# Altium schematic symbol library RPSLib_LEDs.SchLib: 15 symbols
Pins are listed as number, name and electrical type; pins without a type are passive.

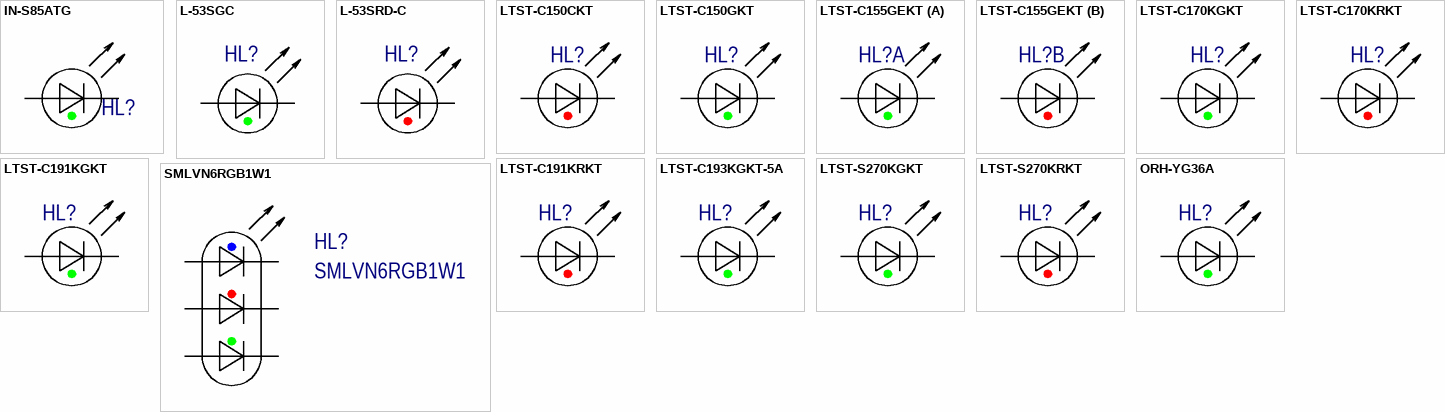
[diagram p0: symbols IN-S85ATG to SMLVN6RGB1W1]

## IN-S85ATG
designator HL?  (value not drawn)
Led Green Clear 0805 SMD; Manufacturer: Inolux; Lens Style: Flat; Luminous Intensity: 600mcd; Forward Voltage: 3.2V; Test Current: 20mA; Viewing Angle: 120°; Dominant Wavelength: 520nm; Lens Size: 1.25mm; Supplier 1: Digi-Key; Manufacturer Part Number: IN-S85ATG; RoHS: No; Category: LEDs; Stock 1: 112506; Pricing 1: 1=0,36000, 10=0,28500, 100=0,12820, 500=0,11576, 1000=0,09508 (USD); Mount: Surface Mount; Case/Package: 0805; Color: Green; Lens Color: Clear; Case Code (Imperial): 0805; Case Code (Metric): 2012; Packaging: Cut Tape; Lens Transparency: Clear; Length: 2mm; Width: 1.25mm; Height: 1.1mm; ComponentLink1URL: http://www.inolux-corp.com/datasheet/SMDLED/Mono%20Color%20Top%20View/IN-S85AT%20Series_V1.1.pdf?src-supplier=Digi-Key; ComponentLink1Description: http://www.inolux-corp.com/datasheet/SMDLED/Mono%20Color%20Top%20View/IN-S85AT%20Series_V1.1.pdf?src-supplier=Digi-Key; ComponentLink2URL: http://www.inolux-corp.com/datasheet/SMDLED/Mono%20Color%20Top%20View/IN-S85AT%20Series_V1.0.pdf?src-supplier=Digi-Key; ComponentLink2Description: http://www.inolux-corp.com/datasheet/SMDLED/Mono%20Color%20Top%20View/IN-S85AT%20Series_V1.0.pdf?src-supplier=Digi-Key; Supplier Part Number 1: 1830-1079-1-ND
footprint DIOC2012X11N-LED-Inolux-GREEN (Chip Diode, 2-Leads, Body 2,00x1,25mm, IPC Medium Density)
pins: 1 A, 2 C

## L-53SGC
designator HL?  (value not drawn)
LED Uni-Color Green 568nm 2-Pin T-1 3/4; Manufacturer: Kingbright; Viewing Angle: 60°; Number of LEDs: 1; Lens Style: Circular,Diffused; Manufacturer Part Number: L-53SGC; RoHS: Yes; Category: LEDs; Mount: Through Hole; Number of Pins: 2; Color: Green; Lens Color: Green; Wavelength: 568nm; Radiation Hardening: No; ComponentLink1URL: https://datasheet.ciiva.com/29334/180189-da-01-en-led-5mm-superbright-typ-l-53srd-e-29334516.pdf?src-supplier=Conrad; ComponentLink1Description: https://datasheet.ciiva.com/29334/180189-da-01-en-led-5mm-superbright-typ-l-53srd-e-29334516.pdf?src-supplier=Conrad
footprint T-1 3/4-Green (Throw hole LED, dia 5mm)
pins: 1 A, 2 C

## L-53SRD-C
designator HL?  (value not drawn)
LED Uni-Color Red 660nm 2-Pin T-1 3/4; Manufacturer: Kingbright; Viewing Angle: 60°; Number of LEDs: 1; Lens Style: Circular,Diffused; Manufacturer Part Number: L-53SRD-C; RoHS: Yes; Category: LEDs; Mount: Through Hole; Number of Pins: 2; Color: Red; Lens Color: Red; Wavelength: 660nm; Radiation Hardening: No; ComponentLink1URL: https://datasheet.ciiva.com/29334/180189-da-01-en-led-5mm-superbright-typ-l-53srd-e-29334516.pdf?src-supplier=Conrad; ComponentLink1Description: https://datasheet.ciiva.com/29334/180189-da-01-en-led-5mm-superbright-typ-l-53srd-e-29334516.pdf?src-supplier=Conrad
footprint T-1 3/4-Red (Throw hole LED, dia 5mm)
pins: 1 A, 2 C

## LTST-C150CKT
designator HL?  (value not drawn)
LED Uni-Color Red 660nm 2-Pin Chip LED T/R; Manufacturer: Vishay Lite-On; Lens Color: Colorless; Number of LEDs: 1; Lens Style: Diffused,Colorless,Clear,Rectangular; Viewing Angle: 130°; Dominant Wavelength: 638nm; Power Dissipation: 100mW; Reverse Voltage: 5V; Forward Current: 40mA; Forward Voltage: 1.8V; Luminous Intensity: 25mcd; Test Current: 10mA; Lens Transparency: Clear; Supplier 1: Digi-Key; Manufacturer Part Number: LTST-C150CKT; RoHS: Yes; Category: LEDs; Stock 1: 225741; Pricing 1: 1=0,33000, 10=0,18100, 100=0,08390, 500=0,07740, 1000=0,06063 (USD); Mount: Surface Mount; Case/Package: 1206; Number of Pins: 2; Color: Red; Case Code (Imperial): 1206; Case Code (Metric): 3216; Min Operating Temperature: -55°C; Max Operating Temperature: 85°C; Number of Elements: 1; Wavelength: 660nm; Packaging: Tape and Reel; Package Quantity: 1; Illumination Color: Red; Power Rating: 100mW; Max Power Dissipation: 100mW; Length: 3.2mm; Width: 1.6mm; Height: 1.1mm; Depth: 1.6mm; Radiation Hardening: No; Lead Free: Lead Free; ComponentLink1URL: https://datasheet.ciiva.com/2110/ltst-c150ckt-2110225.pdf?src-supplier=Digi-Key; ComponentLink1Description: https://datasheet.ciiva.com/2110/ltst-c150ckt-2110225.pdf?src-supplier=Digi-Key; ComponentLink2URL: https://datasheet.ciiva.com/16222/lite-on20ltst-c150ckt-16222610.pdf?src-supplier=Future+Electronics; ComponentLink2Description: https://datasheet.ciiva.com/16222/lite-on20ltst-c150ckt-16222610.pdf?src-supplier=Future+Electronics; ComponentLink3URL: https://datasheet.ciiva.com/15117/getdatasheetpartid-103928-15117444.pdf?src-supplier=Verical; ComponentLink3Description: https://datasheet.ciiva.com/15117/getdatasheetpartid-103928-15117444.pdf?src-supplier=Verical; ComponentLink4URL: https://datasheet.ciiva.com/19465/697733-19465844.pdf?src-supplier=Jameco; ComponentLink4Description: https://datasheet.ciiva.com/19465/697733-19465844.pdf?src-supplier=Jameco; ComponentLink5URL: https://datasheet.ciiva.com/11775/0900766b80dc025c-11775635.pdf?src-supplier=RSComponents; ComponentLink5Description: https://datasheet.ciiva.com/11775/0900766b80dc025c-11775635.pdf?src-supplier=RSComponents; ComponentLink6URL: https://datasheet.ciiva.com/2110/s-110-ltst-c150ckt-2110226.pdf?src-supplier=Digi-Key; ComponentLink6Description: https://datasheet.ciiva.com/2110/s-110-ltst-c150ckt-2110226.pdf?src-supplier=Digi-Key; ComponentLink7URL: https://datasheet.ciiva.com/2110/s-110-ltst-c150ckt-2110227.pdf?src-supplier=Digi-Key; ComponentLink7Description: https://datasheet.ciiva.com/2110/s-110-ltst-c150ckt-2110227.pdf?src-supplier=Digi-Key; Supplier Part Number 1: 160-1167-1-ND
footprint DIOC3216X11N_LED_RED (Chip Diode, 2-Leads, Body 3,20x1,60mm, IPC Medium Density)
pins: 1 C, 2 A
1 alternate drawing of the same symbol

## LTST-C150GKT
designator HL?  (value not drawn)
LED GREEN CLEAR 1206 SMD; Manufacturer: Vishay Lite-On; Lens Color: Colorless; Lens Style: Diffused,Colorless,Rectangular,Clear; Number of LEDs: 1; Luminous Intensity: 6mcd; Forward Voltage: 2.1V; Reverse Voltage: 5V; Wavelength: 565nm; Test Current: 10mA; Forward Current: 30mA; Viewing Angle: 130°; Power Rating: 100mW; Dominant Wavelength: 569nm; Supplier 1: Digi-Key; Manufacturer Part Number: LTST-C150GKT; RoHS: Yes; Category: LEDs; Stock 1: 20742; Pricing 1: 1=0,31000, 10=0,16900, 100=0,07830, 500=0,07230, 1000=0,05664 (USD); Mount: Surface Mount; Case/Package: 1206; Number of Pins: 2; Color: Green; Case Code (Imperial): 1206; Case Code (Metric): 3216; Min Operating Temperature: -55°C; Max Operating Temperature: 85°C; Packaging: Tape and Reel; Package Quantity: 1; Illumination Color: Green; Lens Transparency: Clear; Number of Elements: 1; Power Dissipation: 100mW; Max Power Dissipation: 100mW; Length: 3.2mm; Width: 1.6mm; Height: 1.1mm; Depth: 1.6mm; Radiation Hardening: No; Lead Free: Lead Free; ComponentLink1URL: https://datasheet.ciiva.com/2110/ltst-c150gkt-2110032.pdf?src-supplier=Digi-Key; ComponentLink1Description: https://datasheet.ciiva.com/2110/ltst-c150gkt-2110032.pdf?src-supplier=Digi-Key; ComponentLink2URL: https://datasheet.ciiva.com/12400/lite-on-ltst-c150gkt-187412-12400912.pdf?src-supplier=Mouser; ComponentLink2Description: https://datasheet.ciiva.com/12400/lite-on-ltst-c150gkt-187412-12400912.pdf?src-supplier=Mouser; ComponentLink3URL: https://datasheet.ciiva.com/11775/0900766b80dc0263-11775637.pdf?src-supplier=RSComponents; ComponentLink3Description: https://datasheet.ciiva.com/11775/0900766b80dc0263-11775637.pdf?src-supplier=RSComponents; ComponentLink4URL: https://datasheet.ciiva.com/16375/ltst-c150gkt-16375926.pdf?src-supplier=Future+Electronics; ComponentLink4Description: https://datasheet.ciiva.com/16375/ltst-c150gkt-16375926.pdf?src-supplier=Future+Electronics; ComponentLink5URL: https://datasheet.ciiva.com/15117/getdatasheetpartid-142080-15117739.pdf?src-supplier=Verical; ComponentLink5Description: https://datasheet.ciiva.com/15117/getdatasheetpartid-142080-15117739.pdf?src-supplier=Verical; ComponentLink6URL: https://datasheet.ciiva.com/4266/s-110-ltst-c150gkt-4266310.pdf?src-supplier=Arrow+Electronics; ComponentLink6Description: https://datasheet.ciiva.com/4266/s-110-ltst-c150gkt-4266310.pdf?src-supplier=Arrow+Electronics; Supplier Part Number 1: 160-1169-1-ND
footprint DIOC3216X11N_LED_GREEN (Chip Diode, 2-Leads, Body 3,20x1,60mm, IPC Medium Density)
pins: 1 C, 2 A
1 alternate drawing of the same symbol

## LTST-C155GEKT
designator HL?  (value not drawn)
LED GREEN/RED CLEAR CHIP SMD; Manufacturer: Vishay Lite-On; Color: Green,Red; Lens Color: Colorless; Lens Style: Diffused,Colorless,Rectangular,Clear; Forward Voltage: 2V; Luminous Intensity: 6mcd; Test Current: 10mA; Wavelength: 630nm; Viewing Angle: 130°; Forward Current: 30mA; Dominant Wavelength: 621nm; Number of Elements: 2; Power Dissipation: 100mW; Reverse Voltage: 5V; Supplier 1: Digi-Key; Manufacturer Part Number: LTST-C155GEKT; RoHS: Yes; Category: LEDs; Stock 1: 94318; Pricing 1: 1=0,42000, 10=0,29700, 100=0,17310, 500=0,11870, 1000=0,09892 (USD); Mount: Surface Mount; Case/Package: 1210; Number of Pins: 4; Case Code (Metric): 3225; Case Code (Imperial): 1210; Min Operating Temperature: -55°C; Max Operating Temperature: 85°C; Package Quantity: 3000; Packaging: Tape and Reel; Illumination Color: Green,Red; Lens Transparency: Clear; Number of LEDs: 2; Length: 2.7mm; Height: 1.1mm; Width: 2.7mm; Depth: 3.2mm; Radiation Hardening: No; Lead Free: Lead Free; ComponentLink1URL: https://datasheet.ciiva.com/2110/ltst-c155gekt-2110704.pdf?src-supplier=Digi-Key; ComponentLink1Description: https://datasheet.ciiva.com/2110/ltst-c155gekt-2110704.pdf?src-supplier=Digi-Key; ComponentLink2URL: https://datasheet.ciiva.com/15117/getdatasheetpartid-123462-15117623.pdf?src-supplier=Verical; ComponentLink2Description: https://datasheet.ciiva.com/15117/getdatasheetpartid-123462-15117623.pdf?src-supplier=Verical; ComponentLink3URL: https://datasheet.ciiva.com/11775/0900766b80dc026c-11775659.pdf?src-supplier=RSComponents; ComponentLink3Description: https://datasheet.ciiva.com/11775/0900766b80dc026c-11775659.pdf?src-supplier=RSComponents; ComponentLink4URL: https://datasheet.ciiva.com/12403/lite-on-ltst-c155gekt-190166-12403903.pdf?src-supplier=Mouser; ComponentLink4Description: https://datasheet.ciiva.com/12403/lite-on-ltst-c155gekt-190166-12403903.pdf?src-supplier=Mouser; ComponentLink5URL: https://datasheet.ciiva.com/2110/ltst-c155gekt-2110705.pdf?src-supplier=Digi-Key; ComponentLink5Description: https://datasheet.ciiva.com/2110/ltst-c155gekt-2110705.pdf?src-supplier=Digi-Key; Supplier Part Number 1: 160-1172-1-ND
footprint LTST-C155 Dual color (Dual color LED)
part A pins: 1 A1, 3 C1
part B pins: 2 A2, 4 C2
1 alternate drawing of the same symbol

## LTST-C170KGKT
designator HL?  (value not drawn)
LED GREEN CLEAR SMD; Manufacturer: Vishay Lite-On; Lens Color: Colorless; Luminous Intensity: 35mcd; Forward Current: 30mA; Viewing Angle: 130°; Forward Voltage: 2V; Lens Style: Diffused,Colorless,Clear,Rectangular; Power Rating: 75mW; Test Current: 20mA; Dominant Wavelength: 571nm; Number of Elements: 1; Wavelength: 574nm; Reverse Voltage: 5V; Supplier 1: Digi-Key; Manufacturer Part Number: LTST-C170KGKT; RoHS: Yes; Category: LEDs; Stock 1: 176768; Pricing 1: 1=0,35000, 10=0,18800, 100=0,08740, 500=0,08070, 1000=0,06322 (USD); Mount: Surface Mount; Case/Package: 0805; Number of Pins: 2; Color: Green; Case Code (Metric): 2012; Case Code (Imperial): 0805; Min Operating Temperature: -55°C; Max Operating Temperature: 85°C; Packaging: Tape and Reel; Package Quantity: 1; Illumination Color: Green; Lens Transparency: Clear; Power Dissipation: 75mW; Number of LEDs: 1; Series: -; Length: 2mm; Width: 1.25mm; Height: 1.1mm; Depth: 1.25mm; Radiation Hardening: No; Lead Free: Lead Free; RoHS Compliant: Yes; ComponentLink1URL: https://datasheet.ciiva.com/16226/ltst-c170kgkt-16226257.pdf?src-supplier=Future+Electronics; ComponentLink1Description: https://datasheet.ciiva.com/16226/ltst-c170kgkt-16226257.pdf?src-supplier=Future+Electronics; ComponentLink2URL: https://datasheet.ciiva.com/12400/lite-on-ltst-c170kgkt-187430-12400681.pdf?src-supplier=Mouser; ComponentLink2Description: https://datasheet.ciiva.com/12400/lite-on-ltst-c170kgkt-187430-12400681.pdf?src-supplier=Mouser; ComponentLink3URL: https://datasheet.ciiva.com/11775/0900766b80dc027a-11775627.pdf?src-supplier=RSComponents; ComponentLink3Description: https://datasheet.ciiva.com/11775/0900766b80dc027a-11775627.pdf?src-supplier=RSComponents; ComponentLink4URL: https://datasheet.ciiva.com/15117/getdatasheetpartid-144016-15117803.pdf?src-supplier=Verical; ComponentLink4Description: https://datasheet.ciiva.com/15117/getdatasheetpartid-144016-15117803.pdf?src-supplier=Verical; ComponentLink5URL: https://datasheet.ciiva.com/2110/s-110-ltst-c170kgkt-2110213.pdf?src-supplier=Digi-Key; ComponentLink5Description: https://datasheet.ciiva.com/2110/s-110-ltst-c170kgkt-2110213.pdf?src-supplier=Digi-Key; ComponentLink6URL: https://datasheet.ciiva.com/2110/s-110-ltst-c170kgkt-2110214.pdf?src-supplier=Digi-Key; ComponentLink6Description: https://datasheet.ciiva.com/2110/s-110-ltst-c170kgkt-2110214.pdf?src-supplier=Digi-Key; ComponentLink7URL: https://datasheet.ciiva.com/2110/s-110-ltst-c170kgkt-2110215.pdf?src-supplier=Digi-Key; ComponentLink7Description: https://datasheet.ciiva.com/2110/s-110-ltst-c170kgkt-2110215.pdf?src-supplier=Digi-Key; Supplier Part Number 1: 160-1414-1-ND
footprint DIOC2012X11N-LED-LiteOn-Green (Chip Diode, 2-Leads, Body 2,00x1,25mm, IPC Medium Density)
pins: 1 C, 2 A
1 alternate drawing of the same symbol

## LTST-C170KRKT
designator HL?  (value not drawn)
LED Uni-Color Red 639nm 2-Pin Chip LED T/R; Manufacturer: Vishay Lite-On; Lens Color: Colorless; Forward Current: 30mA; Forward Voltage: 2V; Power Rating: 75mW; Luminous Intensity: 54mcd; Viewing Angle: 130°; Lens Style: Clear,Diffused,Colorless,Rectangular; Dominant Wavelength: 631nm; Test Current: 20mA; Lens Transparency: Clear; Number of Elements: 1; Reverse Voltage: 5V; Supplier 1: Digi-Key; Manufacturer Part Number: LTST-C170KRKT; RoHS: Yes; Category: LEDs; Pricing 1: 1=0,31000, 10=0,16900, 100=0,07860, 500=0,07260, 1000=0,05687 (USD); Mount: Surface Mount; Case/Package: 0805; Number of Pins: 2; Color: Red; Case Code (Metric): 2012; Case Code (Imperial): 0805; Min Operating Temperature: -55°C; Max Operating Temperature: 85°C; Illumination Color: Red; Packaging: Tape and Reel; Package Quantity: 1; Power Dissipation: 75mW; Wavelength: 639nm; Number of LEDs: 1; Series: CHIPLED 0805; Length: 3.2mm; Width: 1.25mm; Height: 1.1mm; Depth: 1.6mm; Radiation Hardening: No; Lead Free: Lead Free; RoHS Compliant: Yes; ComponentLink1URL: https://datasheet.ciiva.com/15117/getdatasheetpartid-103842-15117442.pdf?src-supplier=Verical; ComponentLink1Description: https://datasheet.ciiva.com/15117/getdatasheetpartid-103842-15117442.pdf?src-supplier=Verical; ComponentLink2URL: https://datasheet.ciiva.com/16362/lite-on20ltst-c170krkt-16362852.pdf?src-supplier=Future+Electronics; ComponentLink2Description: https://datasheet.ciiva.com/16362/lite-on20ltst-c170krkt-16362852.pdf?src-supplier=Future+Electronics; ComponentLink3URL: https://datasheet.ciiva.com/11775/0900766b80dc027b-11775642.pdf?src-supplier=RSComponents; ComponentLink3Description: https://datasheet.ciiva.com/11775/0900766b80dc027b-11775642.pdf?src-supplier=RSComponents; ComponentLink4URL: https://datasheet.ciiva.com/12403/lite-on-ltst-c170krkt-187374-12403917.pdf?src-supplier=Mouser; ComponentLink4Description: https://datasheet.ciiva.com/12403/lite-on-ltst-c170krkt-187374-12403917.pdf?src-supplier=Mouser; ComponentLink5URL: https://datasheet.ciiva.com/2110/s-110-ltst-c170krkt-2110036.pdf?src-supplier=Digi-Key; ComponentLink5Description: https://datasheet.ciiva.com/2110/s-110-ltst-c170krkt-2110036.pdf?src-supplier=Digi-Key; ComponentLink6URL: https://datasheet.ciiva.com/2110/s-110-ltst-c170krkt-2110037.pdf?src-supplier=Digi-Key; ComponentLink6Description: https://datasheet.ciiva.com/2110/s-110-ltst-c170krkt-2110037.pdf?src-supplier=Digi-Key; ComponentLink7URL: https://datasheet.ciiva.com/2110/s-110-ltst-c170krkt-2110038.pdf?src-supplier=Digi-Key; ComponentLink7Description: https://datasheet.ciiva.com/2110/s-110-ltst-c170krkt-2110038.pdf?src-supplier=Digi-Key; Supplier Part Number 1: 160-1415-1-ND
footprint DIOC2012X11N-LED-LiteOn-Red (Chip Diode, 2-Leads, Body 2,00x1,25mm, IPC Medium Density)
pins: 1 C, 2 A
1 alternate drawing of the same symbol

## LTST-C191KGKT
designator HL?  (value not drawn)
LED Uni-Color Green 574nm 2-Pin Chip LED T/R; Manufacturer: Vishay Lite-On; Lens Color: Colorless; Luminous Intensity: 35mcd; Viewing Angle: 130°; Forward Voltage: 2V; Dominant Wavelength: 571nm; Test Current: 20mA; Lens Transparency: Clear; Lens Style: Diffused,Colorless,Rectangular,Clear; Forward Current: 30mA; Number of Elements: 1; Power Dissipation: 75mW; Reverse Voltage: 5V; Supplier 1: Digi-Key; Manufacturer Part Number: LTST-C191KGKT; Stock 1: 807907; Pricing 1: 1=0,28000, 10=0,20100, 100=0,09540, 500=0,06364, 1000=0,04984, 2500=0,04878 (USD); RoHS: Yes; Mount: Surface Mount; Case/Package: 0603; Number of Pins: 2; Color: Green; Case Code (Metric): 1608; Case Code (Imperial): 0603; Min Operating Temperature: -55°C; Max Operating Temperature: 85°C; Packaging: Tape and Reel; Package Quantity: 1; Wavelength: 574nm; Illumination Color: Green; Number of LEDs: 1; Power Rating: 75mW; Length: 1.6mm; Height: 0.55mm; Width: 0.8mm; Depth: 0.8mm; Radiation Hardening: No; Lead Free: Lead Free; ComponentLink1URL: https://datasheet.ciiva.com/12400/100-ltst-c191kgkt-53586-12400818.pdf?src-supplier=Mouser; ComponentLink1Description: https://datasheet.ciiva.com/12400/100-ltst-c191kgkt-53586-12400818.pdf?src-supplier=Mouser; ComponentLink2URL: https://datasheet.ciiva.com/11773/0900766b80dc02b1-11773629.pdf?src-supplier=RSComponents; ComponentLink2Description: https://datasheet.ciiva.com/11773/0900766b80dc02b1-11773629.pdf?src-supplier=RSComponents; ComponentLink3URL: https://datasheet.ciiva.com/16215/ltst-c191kgkt-16215151.pdf?src-supplier=Future+Electronics; ComponentLink3Description: https://datasheet.ciiva.com/16215/ltst-c191kgkt-16215151.pdf?src-supplier=Future+Electronics; ComponentLink4URL: https://datasheet.ciiva.com/2109/s-110-ltst-c191kgkt-2109973.pdf?src-supplier=Digi-Key; ComponentLink4Description: https://datasheet.ciiva.com/2109/s-110-ltst-c191kgkt-2109973.pdf?src-supplier=Digi-Key; ComponentLink5URL: https://datasheet.ciiva.com/2109/s-110-ltst-c191kgkt-2109974.pdf?src-supplier=Digi-Key; ComponentLink5Description: https://datasheet.ciiva.com/2109/s-110-ltst-c191kgkt-2109974.pdf?src-supplier=Digi-Key; ComponentLink6URL: https://datasheet.ciiva.com/2109/s-110-ltst-c191kgkt-2109975.pdf?src-supplier=Digi-Key; ComponentLink6Description: https://datasheet.ciiva.com/2109/s-110-ltst-c191kgkt-2109975.pdf?src-supplier=Digi-Key; ComponentLink7URL: https://datasheet.ciiva.com/15223/getdatasheetpartid-103913-15223276.pdf?src-supplier=Verical; ComponentLink7Description: https://datasheet.ciiva.com/15223/getdatasheetpartid-103913-15223276.pdf?src-supplier=Verical; Supplier Part Number 1: 160-1446-1-ND
footprint DIOC1608X04N_LED (Chip LED, 2-Leads, Body 1,60x0,80mm, IPC Medium Density)
pins: 1 C, 2 A
1 alternate drawing of the same symbol

## LTST-C191KRKT
designator HL?  (value not drawn)
LED; SMD; 0603; red; 18-54mcd; 1.6x0.8x0.55mm; 130°; 2÷2.4V; 20mA; Manufacturer: Vishay Lite-On; Lens Color: Colorless; Power Rating: 75mW; Luminous Intensity: 54mcd; Forward Voltage: 2V; Lens Style: Clear,Diffused,Colorless,Rectangular; Forward Current: 30mA; Dominant Wavelength: 631nm; Lens Transparency: Clear; Number of Elements: 1; Wavelength: 639nm; Reverse Voltage: 5V; Supplier 1: Digi-Key; Manufacturer Part Number: LTST-C191KRKT; Stock 1: 327349; Pricing 1: 1=0,28000, 10=0,20100, 100=0,09540, 500=0,06364, 1000=0,04984, 2500=0,04878 (USD); RoHS: Yes; Mount: Surface Mount; Case/Package: 0603; Number of Pins: 2; Color: Red; Case Code (Metric): 1608; Case Code (Imperial): 0603; Min Operating Temperature: -55°C; Max Operating Temperature: 85°C; Packaging: Tape and Reel; Viewing Angle: 130°; Package Quantity: 1; Illumination Color: Red; Test Current: 20mA; Power Dissipation: 75mW; Number of LEDs: 1; Voltage: 2V; Length: 1.6mm; Height: 0.55mm; Width: 0.8mm; Depth: 0.8mm; Radiation Hardening: No; Lead Free: Lead Free; ComponentLink1URL: https://datasheet.ciiva.com/11773/0900766b80dc02b2-11773601.pdf?src-supplier=RSComponents; ComponentLink1Description: https://datasheet.ciiva.com/11773/0900766b80dc02b2-11773601.pdf?src-supplier=RSComponents; ComponentLink2URL: https://datasheet.ciiva.com/16212/ltst-c191krkt-16212419.pdf?src-supplier=Future+Electronics; ComponentLink2Description: https://datasheet.ciiva.com/16212/ltst-c191krkt-16212419.pdf?src-supplier=Future+Electronics; ComponentLink3URL: https://datasheet.ciiva.com/15117/getdatasheetpartid-141922-15117737.pdf?src-supplier=Verical; ComponentLink3Description: https://datasheet.ciiva.com/15117/getdatasheetpartid-141922-15117737.pdf?src-supplier=Verical; ComponentLink4URL: https://datasheet.ciiva.com/12400/lite-on-ltst-c191krkt-190135-12400910.pdf?src-supplier=Mouser; ComponentLink4Description: https://datasheet.ciiva.com/12400/lite-on-ltst-c191krkt-190135-12400910.pdf?src-supplier=Mouser; ComponentLink5URL: https://datasheet.ciiva.com/2109/s-110-ltst-c191krkt-2109970.pdf?src-supplier=Digi-Key; ComponentLink5Description: https://datasheet.ciiva.com/2109/s-110-ltst-c191krkt-2109970.pdf?src-supplier=Digi-Key; ComponentLink6URL: https://datasheet.ciiva.com/2109/s-110-ltst-c191krkt-2109971.pdf?src-supplier=Digi-Key; ComponentLink6Description: https://datasheet.ciiva.com/2109/s-110-ltst-c191krkt-2109971.pdf?src-supplier=Digi-Key; ComponentLink7URL: https://datasheet.ciiva.com/2109/s-110-ltst-c191krkt-2109972.pdf?src-supplier=Digi-Key; ComponentLink7Description: https://datasheet.ciiva.com/2109/s-110-ltst-c191krkt-2109972.pdf?src-supplier=Digi-Key; Supplier Part Number 1: 160-1447-1-ND
footprint DIOC1608X04N_LED (Chip LED, 2-Leads, Body 1,60x0,80mm, IPC Medium Density)
pins: 1 C, 2 A
1 alternate drawing of the same symbol

## LTST-C193KGKT-5A
designator HL?  (value not drawn)
Lite-On LTST-C193KGKT-5A Green LED, 576.5 nm 1608 (0603), Rectangle Lens SMD package; Manufacturer: Vishay Lite-On; Lens Colour: Clear,Colorless; Luminous Intensity: 28mcd; Forward Current: 30mA; Viewing Angle: 130°; Forward Voltage: 2.3V; Lens Style: Clear,Colorless,Diffused,Rectangular; Illumination Colour: Green,Yellow; Test Current: 5mA; Number of Elements: 1; Power Dissipation: 75mW; Reverse Voltage: 5V; Lens Transparency: Clear; РКД Наименование: LTST-C193KGKT-5A; Supplier 1: Digi-Key; Manufacturer Part Number: LTST-C193KGKT-5A; Stock 1: 421729; Pricing 1: 1=0.41, 10=0.296, 25=0.2268, 100=0.148, 250=0.10852, 500=0.0921, 1000=0.07565, 2500=0.06578 (USD); Mount: Surface Mount; Case/Package: 0603; Number of Pins: 2; Colour: Green; Case Code (Metric): 1608; Case Code (Imperial): 0603; Min Operating Temperature: -55°C; Max Operating Temperature: 85°C; Packaging: Tape and Reel; Package Quantity: 3000; Dominant Wavelength: 576.5nm; Number of LEDs: 1; Power Rating: 75mW; Length: 1.6mm; Height: 0.35mm; Width: 0.8mm; Depth: 0.8mm; Radiation Hardening: No; Lead Free: Lead Free; ComponentLink1URL: http://www1.futureelectronics.com/doc/LITE-ON/LTST-C193KGKT-5A.pdf; ComponentLink1Description: http://www1.futureelectronics.com/doc/LITE-ON/LTST-C193KGKT-5A.pdf; ComponentLink2URL: http://optoelectronics.liteon.com/upload/download/DS22-2007-0094/LTST-C193KGKT-5A.PDF; ComponentLink2Description: http://optoelectronics.liteon.com/upload/download/DS22-2007-0094/LTST-C193KGKT-5A.PDF; ComponentLink3URL: http://www.mouser.com/ds/2/239/LTST-C193_Series-201756.pdf; ComponentLink3Description: http://www.mouser.com/ds/2/239/LTST-C193_Series-201756.pdf; ComponentLink4URL: http://uk.rs-online.com/webdocs/1406/0900766b81406ab4.pdf; ComponentLink4Description: http://uk.rs-online.com/webdocs/1406/0900766b81406ab4.pdf; Supplier Part Number 1: 160-1828-1-ND
footprint DIOC1608X04N_LED (Chip LED, 2-Leads, Body 1,60x0,80mm, IPC Medium Density)
pins: 1 C, 2 A
1 alternate drawing of the same symbol

## LTST-S270KGKT
designator HL?  (value not drawn)
LED Uni-Color Green 574nm 2-Pin Chip LED T/R; Manufacturer: Vishay Lite-On; Lens Colour: Clear,Colorless; Forward Current: 30mA; Forward Voltage: 2V; Luminous Intensity: 71mcd; Viewing Angle: 130°; Lens Style: Clear,Colorless,Diffused,Rectangular; Dominant Wavelength: 571nm; Test Current: 20mA; Lens Transparency: Clear; Number of Elements: 1; Power Dissipation: 75mW; Reverse Voltage: 5V; РКД Наименование: LTST-S270KGKT - Green LED, right angle SMD; Digikey: *; Supplier 1: Digi-Key; Manufacturer Part Number: LTST-S270KGKT; Stock 1: 455373; Pricing 1: 1=0.32, 10=0.23, 25=0.1696, 100=0.1213, 250=0.08244, 500=0.07276, 1000=0.05699 (USD); Mount: Surface Mount; Case/Package: 0603; Number of Pins: 2; Colour: Green; Case Code (Metric): 1608; Case Code (Imperial): 0603; Min Operating Temperature: -55°C; Max Operating Temperature: 85°C; Illumination Colour: Green; Packaging: Tape and Reel; Package Quantity: 1; Wavelength: 574nm; Number of LEDs: 1; Power Rating: 75mW; Length: 1.6mm; Height: 0.6mm; Width: 1.15mm; Depth: 0.6mm; Radiation Hardening: No; Lead Free: Lead Free; Supplier Part Number 1: 160-1478-1-ND
footprint LTST-S270KGKT (LED Green Right Angle)
pins: 1 C, 2 A
1 alternate drawing of the same symbol

## LTST-S270KRKT
designator HL?  (value not drawn)
LED Uni-Color Red 639nm 2-Pin Chip LED T/R; Manufacturer: Vishay Lite-On; Lens Colour: Clear,Colorless; Forward Voltage: 2V; Forward Current: 30mA; Luminous Intensity: 54mcd; Viewing Angle: 130°; Lens Style: Clear,Colorless,Diffused,Rectangular; Power Rating: 75mW; Dominant Wavelength: 631nm; Test Current: 20mA; Lens Transparency: Clear; Number of Elements: 1; Reverse Voltage: 5V; РКД Наименование: LTST-S270KRKT - Red LED, right angle SMD; Supplier 1: Digi-Key; Manufacturer Part Number: LTST-S270KRKT; Stock 1: 249625; Pricing 1: 1=0.27, 10=0.196, 25=0.1448, 100=0.1034, 250=0.07032, 500=0.06204, 1000=0.0486 (USD); Mount: Surface Mount; Case/Package: 0603; Number of Pins: 2; Colour: Red; Case Code (Metric): 1608; Case Code (Imperial): 0603; Min Operating Temperature: -55°C; Max Operating Temperature: 85°C; Packaging: Tape and Reel; Package Quantity: 1; Illumination Colour: Red; Power Dissipation: 75mW; Wavelength: 639nm; Number of LEDs: 1; Max Power Dissipation: 75mW; Length: 1.6mm; Height: 0.6mm; Width: 1.15mm; Depth: 0.6mm; Radiation Hardening: No; Lead Free: Lead Free; Supplier Part Number 1: 160-1479-1-ND
footprint LTST-S270KRKT (LED Red Right Angle)
pins: 1 C, 2 A
1 alternate drawing of the same symbol

## ORH-YG36A
designator HL?  (value not drawn)
Green/Yellow-Green 0603 Light Emitting Diodes (LED) ROHS; Manufacturer: Orient; Color: Green; Lens Color: Colorless; Luminous Intensity: 35mcd; Viewing Angle: 130°; Forward Voltage: 2V; Dominant Wavelength: 571nm; Test Current: 20mA; Lens Transparency: Clear; Wavelength: 574nm; Lens Style: Diffused,Colorless,Rectangular,Clear; Forward Current: 30mA; Number of Elements: 1; Power Dissipation: 75mW; Reverse Voltage: 5V; Manufacturer Part Number: ORH-YG36A; Pricing 1: *; RoHS: Yes; Mount: Surface Mount; Case/Package: 0603; Number of Pins: 2; Case Code (Metric): 1608; Case Code (Imperial): 0603; Min Operating Temperature: -55°C; Max Operating Temperature: 85°C; Packaging: Tape and Reel; Package Quantity: 1; Illumination Color: Green; Number of LEDs: 1; Power Rating: 75mW; Length: 1.6mm; Height: 0.55mm; Width: 0.8mm; Depth: 0.8mm; Radiation Hardening: No; Lead Free: Lead Free; ComponentLink1URL: https://lcsc.com/product-detail/Light-Emitting-Diodes-LED_Orient-ORH-YG36A_C205450.html; ComponentLink1Description: LCSC Link; ComponentLink2URL: https://datasheet.lcsc.com/lcsc/1810281612_Orient-ORH-YG36A_C205450.pdf; ComponentLink2Description: Datasheet; Supplier Part Number 1: C205450; Supplier 1: LCSC; Stock 1: *
footprint DIOC1608X04N_LED (Chip LED, 2-Leads, Body 1,60x0,80mm, IPC Medium Density)
pins: 1 C, 2 A
1 alternate drawing of the same symbol

## SMLVN6RGB1W1
designator HL?
LED Tri-Color Blue/Green/Red Chip LED 6-Pin 1411 T/R; Manufacturer: Rohm; Colour: Blue,Green,Red; Lens Colour: White; Lens Transparency: Diffused; Luminous Intensity: 400mcd; Test Current: 20mA; Dominant Wavelength: 470nm; Lens Style: Colored,Rectangular; Forward Voltage: 3.3V; Number of LEDs: 3; РКД Наименование: SMLVN6RGB1W1 - RGB LED; PartNo: SMLVN6RGB1W1; Digikey: *; Supplier 1: Digi-Key; Manufacturer Part Number: SMLVN6RGB1W1; Stock 1: 27083; Pricing 1: 1=1.55, 10=1.263, 25=0.9712, 100=0.8742, 250=0.77704, 500=0.66048 (USD); Mount: Surface Mount; Case/Package: SMD/SMT; Number of Pins: 6; Packaging: Tape and Reel; Length: 3.1mm; Height: 0.7mm; Width: 2.8mm; Lead Free: Lead Free; Supplier Part Number 1: 846-1187-6-ND
footprint LED3528M (SMD LED 3.5x2.8 mm, 0.6mm height)
pins: 1 AB, 2 AR, 3 AG, 4 CG, 5 CR, 6 CB
1 alternate drawing of the same symbol